# Altium footprint library SSOP24.PcbLib: 1 footprints
Each footprint in its own frame and in the unit in brackets; x right, y up, seen from the top. Pads: shape width x height; smd on the part's side, far side on the other; paste and mask are expansions set on the pad; w line width, h text height; cw(c..) or ccw(c..) is an arc to the next point about the centre after c.
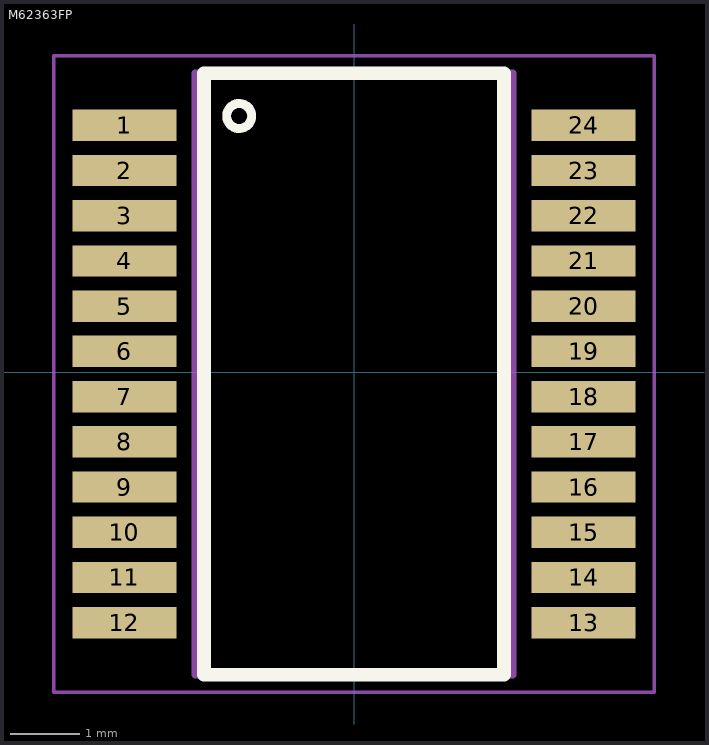
[diagram p0: the footprint, top view; thin cyan lines are the x and y axes]

## M62363FP [mm]
pads (24):
  rect 1.5x0.45 smd: 1(-3.3,3.548) 2(-3.3,2.898) 3(-3.3,2.248) 4(-3.3,1.598) 5(-3.3,0.948) 6(-3.3,0.298) 7(-3.3,-0.352) 8(-3.3,-1.002) 9(-3.3,-1.652) 10(-3.3,-2.302) 11(-3.3,-2.952) 12(-3.3,-3.602) 13(3.3,-3.602) 14(3.3,-2.952) 15(3.3,-2.302) 16(3.3,-1.652) 17(3.3,-1.002) 18(3.3,-0.352) 19(3.3,0.298) 20(3.3,0.948) 21(3.3,1.598) 22(3.3,2.248) 23(3.3,2.898) 24(3.3,3.548)
Top Overlay:
  circle w0.127: c-1.651,3.683 r0.18
  lines w0.2: -2.159,-4.352 -2.159,4.298 2.159,4.298 2.159,-4.352 -2.159,-4.352
Mechanical 1:
  circle w0.127: c-1.651,3.683 r0.18
Mechanical 13:
  lines w0.05: -4.318,-4.602 -4.318,4.548 4.318,4.548 4.318,-4.602 -4.318,-4.602
  lines w0.1: -2.286,-4.352 -2.286,4.298 2.286,4.298 2.286,-4.352 -2.286,-4.352
3D body "SSOP-24.step": height 1.78, standoff -0.21, extent -3.95,-4.315 3.95,4.315